# Altium schematic symbol library HW_ADHERENT_SYSCTRL_R1_L4.SchLib: 1634 symbols (part 29 of 31)
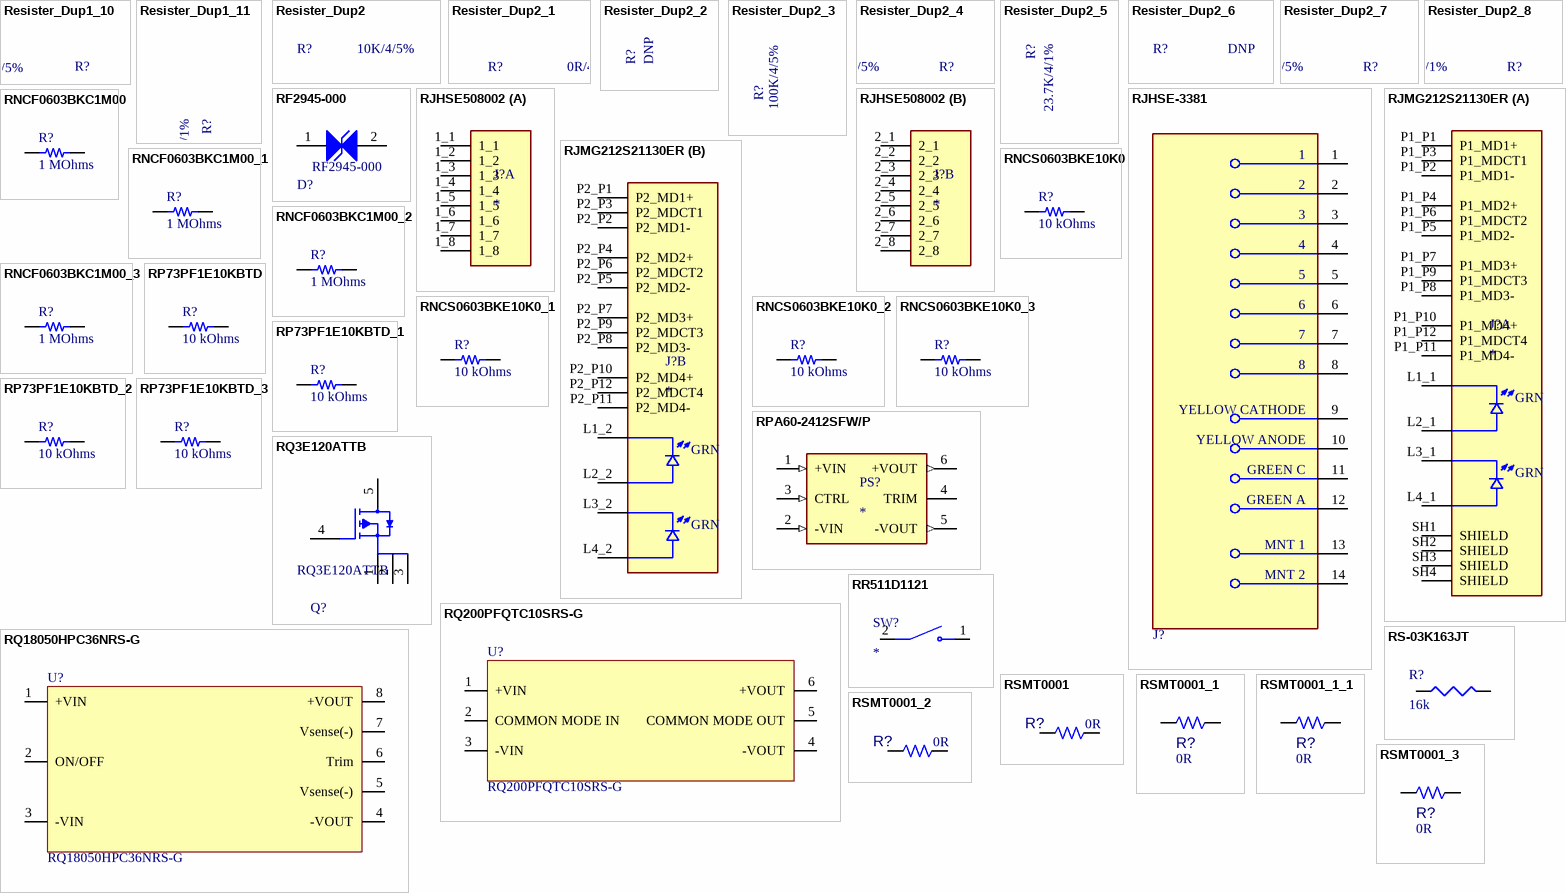
[diagram p78: symbols Resister_Dup1_10 to RSMT0001_3]

## Resister_Dup2_8
designator R?, comment 4.99k/4/1%
Thick Film Resistor,4.99K,+/-1%,,1/16W,-55¡ãC ~ 155¡ãC,,SMD,0402,Fenghua; Manufacturer P/N: RC-02W4991FT; PCB Footprint: R0402; Myir P/N: 20301.80442; Datasheet: FHsheet_2018-07-30.PDF; Reserve Value: 4.99K; Manufacturer: Fenghua; Part Type: Thick Film Resistor
footprint R0402

## RF2945-000
designator D?, comment value RF2945-000  (hidden comment: TVS DIODE 7VWM 10VC 0402)
10V (Typ) Clamp 2A (8/20µs) Ipp Tvs Diode Surface Mount 0402; Manufacturer Part Number: SESD0402X1BN-0010-098; Order Code: DIGI: SESD0402X1BN-0010-098TR-ND
footprint Littelfuse_SESD0402_MFG
pins: 1, 2

## RJHSE508002
designator J?
RJ45, RA, No Shield, 2 Port | Amphenol Commercial (Amphenol CS) RJHSE508002; MF: AMPHENOL ICC / FCI; SnapEDA_Link: https://www.snapeda.com/parts/RJHSE508002/Amphenol/view-part/?ref=snap; Package: None; Value: *; MP: RJHSE508002; Check_prices: https://www.snapeda.com/parts/RJHSE508002/Amphenol/view-part/?ref=eda
footprint AMPHENOL_RJHSE508002
part A pins: 1_1, 1_2, 1_3, 1_4, 1_5, 1_6, 1_7, 1_8
part B pins: 2_1, 2_2, 2_3, 2_4, 2_5, 2_6, 2_7, 2_8

## RJHSE-3381
designator J?  (value not drawn)
Jack Modular Connector 8p8c (RJ45, Ethernet) Vertical Shielded; Manufacturer: Amphenol ICC (Commercial Products); Manufacturer Part Number: RJHSE-3381
footprint Amphenol_0_MFG
pins: 1, 2, 3, 4, 5, 6, 7, 8, 9 YELLOW CATHODE, 10 YELLOW ANODE, 11 GREEN C, 12 GREEN A, 13 MNT 1, 14 MNT 2

## RJMG212S21130ER
designator J?
MF: Amphenol ICC (Commercial Products); MP: RJMG212S21130ER; Package: None; Price: None; Value: *; Availability: Unavailable
footprint AMPHENOL_RJMG212S21130ER
part A pins: L1_1, L2_1, L3_1, L4_1, P1_P1 P1_MD1+, P1_P2 P1_MD1-, P1_P3 P1_MDCT1, P1_P4 P1_MD2+, P1_P5 P1_MD2-, P1_P6 P1_MDCT2, P1_P7 P1_MD3+, P1_P8 P1_MD3-, P1_P9 P1_MDCT3, P1_P10 P1_MD4+, P1_P11 P1_MD4-, P1_P12 P1_MDCT4, SH1 SHIELD, SH2 SHIELD, SH3 SHIELD, SH4 SHIELD
part B pins: L1_2, L2_2, L3_2, L4_2, P2_P1 P2_MD1+, P2_P2 P2_MD1-, P2_P3 P2_MDCT1, P2_P4 P2_MD2+, P2_P5 P2_MD2-, P2_P6 P2_MDCT2, P2_P7 P2_MD3+, P2_P8 P2_MD3-, P2_P9 P2_MDCT3, P2_P10 P2_MD4+, P2_P11 P2_MD4-, P2_P12 P2_MDCT4
part A text: GRN
part B text: GRN

## RNCF0603BKC1M00
designator R?, comment 1 MOhms
RES SMD 1M OHM 0.1% 1/10W 0603; Part Number: RNCF0603BKC1M00; Manufacturer: Stackpole Electronics Inc; Power (Watts): 0.1W, 1/10W; Temperature Coefficient: ±50ppm/°C; Value: 1 MOhms; ComponentLink1Description: Datasheet; ComponentLink1URL: https://www.seielect.com/catalog/sei-rncf.pdf; ComponentLink2Description: DigiKey Link; ComponentLink2URL: https://www.digikey.com/en/products/detail/stackpole-electronics-inc/RNCF0603BKC1M00/6260857; Composition: Thin Film; Device Package: 0603 (1608 Metric); Features: Automotive AEC-Q200; Height - Seated (Max): 0.022" (0.55mm); LastUpdated: 2/9/2024 8:43:26 PM; Lifecycle Status: Active; Minimum Order: 1; Number of Terminations: 2; Operating Temperature: -55°C ~ 155°C; Package / Case: 0603 (1608 Metric); Packaging: TapeAndReel; PartId: 7445; Part Status: Active; Price: 0.05; Ratings: AEC-Q200; Resistance: 1 MOhms; Series: RNCF; Size / Dimension: 0.061" L x 0.031" W (1.55mm x 0.80mm); Supplier 1: DigiKey; Supplier Part Number 1: RNCF0603BKC1M00CT-ND; Supplier Device Package: 0603; Tolerance: ±0.1%
footprint RES 0603_1608
pins: 1, 2

## RNCF0603BKC1M00_1
designator R?, comment 1 MOhms
RES SMD 1M OHM 0.1% 1/10W 0603; Part Number: RNCF0603BKC1M00; Manufacturer: Stackpole Electronics Inc; Power (Watts): 0.1W, 1/10W; Temperature Coefficient: ±50ppm/°C; Value: 1 MOhms; ComponentLink1Description: Datasheet; ComponentLink1URL: https://www.seielect.com/catalog/sei-rncf.pdf; ComponentLink2Description: DigiKey Link; ComponentLink2URL: https://www.digikey.com/en/products/detail/stackpole-electronics-inc/RNCF0603BKC1M00/6260857; Composition: Thin Film; Device Package: 0603 (1608 Metric); Features: Automotive AEC-Q200; Height - Seated (Max): 0.022" (0.55mm); LastUpdated: 2/9/2024 8:43:26 PM; Lifecycle Status: Active; Minimum Order: 1; Number of Terminations: 2; Operating Temperature: -55°C ~ 155°C; Package / Case: 0603 (1608 Metric); Packaging: TapeAndReel; PartId: 7445; Part Status: Active; Price: 0.05; Ratings: AEC-Q200; Resistance: 1 MOhms; Series: RNCF; Size / Dimension: 0.061" L x 0.031" W (1.55mm x 0.80mm); Supplier 1: DigiKey; Supplier Part Number 1: RNCF0603BKC1M00CT-ND; Supplier Device Package: 0603; Tolerance: ±0.1%
footprint RES 0603_1608
pins: 1, 2

## RNCF0603BKC1M00_2
designator R?, comment 1 MOhms
RES SMD 1M OHM 0.1% 1/10W 0603; Part Number: RNCF0603BKC1M00; Manufacturer: Stackpole Electronics Inc; Power (Watts): 0.1W, 1/10W; Temperature Coefficient: ±50ppm/°C; Value: 1 MOhms; ComponentLink1Description: Datasheet; ComponentLink1URL: https://www.seielect.com/catalog/sei-rncf.pdf; ComponentLink2Description: DigiKey Link; ComponentLink2URL: https://www.digikey.com/en/products/detail/stackpole-electronics-inc/RNCF0603BKC1M00/6260857; Composition: Thin Film; Device Package: 0603 (1608 Metric); Features: Automotive AEC-Q200; Height - Seated (Max): 0.022" (0.55mm); LastUpdated: 2/9/2024 8:43:26 PM; Lifecycle Status: Active; Minimum Order: 1; Number of Terminations: 2; Operating Temperature: -55°C ~ 155°C; Package / Case: 0603 (1608 Metric); Packaging: TapeAndReel; PartId: 7445; Part Status: Active; Price: 0.05; Ratings: AEC-Q200; Resistance: 1 MOhms; Series: RNCF; Size / Dimension: 0.061" L x 0.031" W (1.55mm x 0.80mm); Supplier 1: DigiKey; Supplier Part Number 1: RNCF0603BKC1M00CT-ND; Supplier Device Package: 0603; Tolerance: ±0.1%
footprint RES 0603_1608
pins: 1, 2

## RNCF0603BKC1M00_3
designator R?, comment 1 MOhms
RES SMD 1M OHM 0.1% 1/10W 0603; Part Number: RNCF0603BKC1M00; Manufacturer: Stackpole Electronics Inc; Power (Watts): 0.1W, 1/10W; Temperature Coefficient: ±50ppm/°C; Value: 1 MOhms; ComponentLink1Description: Datasheet; ComponentLink1URL: https://www.seielect.com/catalog/sei-rncf.pdf; ComponentLink2Description: DigiKey Link; ComponentLink2URL: https://www.digikey.com/en/products/detail/stackpole-electronics-inc/RNCF0603BKC1M00/6260857; Composition: Thin Film; Device Package: 0603 (1608 Metric); Features: Automotive AEC-Q200; Height - Seated (Max): 0.022" (0.55mm); LastUpdated: 2/9/2024 8:43:26 PM; Lifecycle Status: Active; Minimum Order: 1; Number of Terminations: 2; Operating Temperature: -55°C ~ 155°C; Package / Case: 0603 (1608 Metric); Packaging: TapeAndReel; PartId: 7445; Part Status: Active; Price: 0.05; Ratings: AEC-Q200; Resistance: 1 MOhms; Series: RNCF; Size / Dimension: 0.061" L x 0.031" W (1.55mm x 0.80mm); Supplier 1: DigiKey; Supplier Part Number 1: RNCF0603BKC1M00CT-ND; Supplier Device Package: 0603; Tolerance: ±0.1%
footprint RES 0603_1608
pins: 1, 2

## RNCS0603BKE10K0
designator R?, comment 10 kOhms
RES 10K OHM 0.1% 1/16W 0603; Part Number: RNCS0603BKE10K0; Manufacturer: Stackpole Electronics Inc; Power (Watts): 0.063W, 1/16W; Temperature Coefficient: ±25ppm/°C; Value: 10 kOhms; ComponentLink1Description: Datasheet; ComponentLink1URL: https://www.seielect.com/catalog/sei-rncs_rnch.pdf; ComponentLink2Description: DigiKey Link; ComponentLink2URL: https://www.digikey.com/en/products/detail/stackpole-electronics-inc/RNCS0603BKE10K0/1708836; Composition: Thin Film; Device Package: 0603 (1608 Metric); Features: Anti-Corrosive, Automotive AEC-Q200, Moisture Resistant; Height - Seated (Max): 0.022" (0.55mm); LastUpdated: 2/9/2024 8:43:37 PM; Lifecycle Status: Active; Minimum Order: 1; Number of Terminations: 2; Operating Temperature: -55°C ~ 155°C; Package / Case: 0603 (1608 Metric); Packaging: TapeAndReel; PartId: 4838; Part Status: Active; Price: 0.06; Ratings: AEC-Q200; Resistance: 10 kOhms; Series: RNCS; Size / Dimension: 0.061" L x 0.031" W (1.55mm x 0.80mm); Supplier 1: DigiKey; Supplier Part Number 1: RNCS0603BKE10K0CT-ND; Supplier Device Package: 0603; Tolerance: ±0.1%
footprint RES 0603_1608
pins: 1, 2

## RNCS0603BKE10K0_1
designator R?, comment 10 kOhms
RES 10K OHM 0.1% 1/16W 0603; Part Number: RNCS0603BKE10K0; Manufacturer: Stackpole Electronics Inc; Power (Watts): 0.063W, 1/16W; Temperature Coefficient: ±25ppm/°C; Value: 10 kOhms; ComponentLink1Description: Datasheet; ComponentLink1URL: https://www.seielect.com/catalog/sei-rncs_rnch.pdf; ComponentLink2Description: DigiKey Link; ComponentLink2URL: https://www.digikey.com/en/products/detail/stackpole-electronics-inc/RNCS0603BKE10K0/1708836; Composition: Thin Film; Device Package: 0603 (1608 Metric); Features: Anti-Corrosive, Automotive AEC-Q200, Moisture Resistant; Height - Seated (Max): 0.022" (0.55mm); LastUpdated: 2/9/2024 8:43:37 PM; Lifecycle Status: Active; Minimum Order: 1; Number of Terminations: 2; Operating Temperature: -55°C ~ 155°C; Package / Case: 0603 (1608 Metric); Packaging: TapeAndReel; PartId: 4838; Part Status: Active; Price: 0.06; Ratings: AEC-Q200; Resistance: 10 kOhms; Series: RNCS; Size / Dimension: 0.061" L x 0.031" W (1.55mm x 0.80mm); Supplier 1: DigiKey; Supplier Part Number 1: RNCS0603BKE10K0CT-ND; Supplier Device Package: 0603; Tolerance: ±0.1%
footprint RES 0603_1608
pins: 1, 2

## RNCS0603BKE10K0_2
designator R?, comment 10 kOhms
RES 10K OHM 0.1% 1/16W 0603; Part Number: RNCS0603BKE10K0; Manufacturer: Stackpole Electronics Inc; Power (Watts): 0.063W, 1/16W; Temperature Coefficient: ±25ppm/°C; Value: 10 kOhms; ComponentLink1Description: Datasheet; ComponentLink1URL: https://www.seielect.com/catalog/sei-rncs_rnch.pdf; ComponentLink2Description: DigiKey Link; ComponentLink2URL: https://www.digikey.com/en/products/detail/stackpole-electronics-inc/RNCS0603BKE10K0/1708836; Composition: Thin Film; Device Package: 0603 (1608 Metric); Features: Anti-Corrosive, Automotive AEC-Q200, Moisture Resistant; Height - Seated (Max): 0.022" (0.55mm); LastUpdated: 2/9/2024 8:43:37 PM; Lifecycle Status: Active; Minimum Order: 1; Number of Terminations: 2; Operating Temperature: -55°C ~ 155°C; Package / Case: 0603 (1608 Metric); Packaging: TapeAndReel; PartId: 4838; Part Status: Active; Price: 0.06; Ratings: AEC-Q200; Resistance: 10 kOhms; Series: RNCS; Size / Dimension: 0.061" L x 0.031" W (1.55mm x 0.80mm); Supplier 1: DigiKey; Supplier Part Number 1: RNCS0603BKE10K0CT-ND; Supplier Device Package: 0603; Tolerance: ±0.1%
footprint RES 0603_1608
pins: 1, 2

## RNCS0603BKE10K0_3
designator R?, comment 10 kOhms
RES 10K OHM 0.1% 1/16W 0603; Part Number: RNCS0603BKE10K0; Manufacturer: Stackpole Electronics Inc; Power (Watts): 0.063W, 1/16W; Temperature Coefficient: ±25ppm/°C; Value: 10 kOhms; ComponentLink1Description: Datasheet; ComponentLink1URL: https://www.seielect.com/catalog/sei-rncs_rnch.pdf; ComponentLink2Description: DigiKey Link; ComponentLink2URL: https://www.digikey.com/en/products/detail/stackpole-electronics-inc/RNCS0603BKE10K0/1708836; Composition: Thin Film; Device Package: 0603 (1608 Metric); Features: Anti-Corrosive, Automotive AEC-Q200, Moisture Resistant; Height - Seated (Max): 0.022" (0.55mm); LastUpdated: 2/9/2024 8:43:37 PM; Lifecycle Status: Active; Minimum Order: 1; Number of Terminations: 2; Operating Temperature: -55°C ~ 155°C; Package / Case: 0603 (1608 Metric); Packaging: TapeAndReel; PartId: 4838; Part Status: Active; Price: 0.06; Ratings: AEC-Q200; Resistance: 10 kOhms; Series: RNCS; Size / Dimension: 0.061" L x 0.031" W (1.55mm x 0.80mm); Supplier 1: DigiKey; Supplier Part Number 1: RNCS0603BKE10K0CT-ND; Supplier Device Package: 0603; Tolerance: ±0.1%
footprint RES 0603_1608
pins: 1, 2

## RP73PF1E10KBTD
designator R?, comment 10 kOhms
RES 10K OHM 0.1% 1/10W 0402; Part Number: RP73PF1E10KBTD; Manufacturer: TE Connectivity Passive Product; Power (Watts): 0.1W, 1/10W; Temperature Coefficient: ±25ppm/°C; ComponentLink1Description: Datasheet; ComponentLink1URL: https://www.te.com/commerce/DocumentDelivery/DDEController?Action=srchrtrv&DocNm=1773272&DocType=DS&DocLang=English; ComponentLink2Description: DigiKey Link; ComponentLink2URL: https://www.digikey.com/en/products/detail/te-connectivity-passive-product/RP73PF1E10KBTD/8260957; Composition: Thin Film; Device Package: 0402 (1005 Metric); Height - Seated (Max): 0.014" (0.35mm); LastUpdated: 2/9/2024 8:30:24 PM; Lifecycle Status: Active; Minimum Order: 1; Number of Terminations: 2; Operating Temperature: -55°C ~ 155°C; Package / Case: 0402 (1005 Metric); Packaging: TapeAndReel; PartId: 2434; Part Status: Active; Price: 0.08; Resistance: 10 kOhms; Series: RP73, Holsworthy; Size / Dimension: 0.039" L x 0.020" W (1.00mm x 0.50mm); Supplier 1: DigiKey; Supplier Part Number 1: A127415CT-ND; Supplier Device Package: 0402; Tolerance: ±0.1%; Value: 10 kOhms
footprint RES 0402_1005
pins: 1, 2

## RP73PF1E10KBTD_1
designator R?, comment 10 kOhms
RES 10K OHM 0.1% 1/10W 0402; Part Number: RP73PF1E10KBTD; Manufacturer: TE Connectivity Passive Product; Power (Watts): 0.1W, 1/10W; Temperature Coefficient: ±25ppm/°C; Value: 10 kOhms; ComponentLink1Description: Datasheet; ComponentLink1URL: https://www.te.com/commerce/DocumentDelivery/DDEController?Action=srchrtrv&DocNm=1773272&DocType=DS&DocLang=English; ComponentLink2Description: DigiKey Link; ComponentLink2URL: https://www.digikey.com/en/products/detail/te-connectivity-passive-product/RP73PF1E10KBTD/8260957; Composition: Thin Film; Device Package: 0402 (1005 Metric); Height - Seated (Max): 0.014" (0.35mm); LastUpdated: 2/9/2024 8:30:24 PM; Lifecycle Status: Active; Minimum Order: 1; Number of Terminations: 2; Operating Temperature: -55°C ~ 155°C; Package / Case: 0402 (1005 Metric); Packaging: TapeAndReel; PartId: 2434; Part Status: Active; Price: 0.08; Resistance: 10 kOhms; Series: RP73, Holsworthy; Size / Dimension: 0.039" L x 0.020" W (1.00mm x 0.50mm); Supplier 1: DigiKey; Supplier Part Number 1: A127415CT-ND; Supplier Device Package: 0402; Tolerance: ±0.1%
footprint RES 0402_1005
pins: 1, 2

## RP73PF1E10KBTD_2
designator R?, comment 10 kOhms
RES 10K OHM 0.1% 1/10W 0402; Part Number: RP73PF1E10KBTD; Manufacturer: TE Connectivity Passive Product; Power (Watts): 0.1W, 1/10W; Temperature Coefficient: ±25ppm/°C; ComponentLink1Description: Datasheet; ComponentLink1URL: https://www.te.com/commerce/DocumentDelivery/DDEController?Action=srchrtrv&DocNm=1773272&DocType=DS&DocLang=English; ComponentLink2Description: DigiKey Link; ComponentLink2URL: https://www.digikey.com/en/products/detail/te-connectivity-passive-product/RP73PF1E10KBTD/8260957; Composition: Thin Film; Device Package: 0402 (1005 Metric); Height - Seated (Max): 0.014" (0.35mm); LastUpdated: 2/9/2024 8:30:24 PM; Lifecycle Status: Active; Minimum Order: 1; Number of Terminations: 2; Operating Temperature: -55°C ~ 155°C; Package / Case: 0402 (1005 Metric); Packaging: TapeAndReel; PartId: 2434; Part Status: Active; Price: 0.08; Resistance: 10 kOhms; Series: RP73, Holsworthy; Size / Dimension: 0.039" L x 0.020" W (1.00mm x 0.50mm); Supplier 1: DigiKey; Supplier Part Number 1: A127415CT-ND; Supplier Device Package: 0402; Tolerance: ±0.1%; Value: 10 kOhms
footprint RES 0402_1005
pins: 1, 2

## RP73PF1E10KBTD_3
designator R?, comment 10 kOhms
RES 10K OHM 0.1% 1/10W 0402; Part Number: RP73PF1E10KBTD; Manufacturer: TE Connectivity Passive Product; Power (Watts): 0.1W, 1/10W; Temperature Coefficient: ±25ppm/°C; ComponentLink1Description: Datasheet; ComponentLink1URL: https://www.te.com/commerce/DocumentDelivery/DDEController?Action=srchrtrv&DocNm=1773272&DocType=DS&DocLang=English; ComponentLink2Description: DigiKey Link; ComponentLink2URL: https://www.digikey.com/en/products/detail/te-connectivity-passive-product/RP73PF1E10KBTD/8260957; Composition: Thin Film; Device Package: 0402 (1005 Metric); Height - Seated (Max): 0.014" (0.35mm); LastUpdated: 2/9/2024 8:30:24 PM; Lifecycle Status: Active; Minimum Order: 1; Number of Terminations: 2; Operating Temperature: -55°C ~ 155°C; Package / Case: 0402 (1005 Metric); Packaging: TapeAndReel; PartId: 2434; Part Status: Active; Price: 0.08; Resistance: 10 kOhms; Series: RP73, Holsworthy; Size / Dimension: 0.039" L x 0.020" W (1.00mm x 0.50mm); Supplier 1: DigiKey; Supplier Part Number 1: A127415CT-ND; Supplier Device Package: 0402; Tolerance: ±0.1%; Value: 10 kOhms
footprint RES 0402_1005
pins: 1, 2

## RPA60-2412SFW/P
designator PS?
60W DC/DC-Converter 'POWERLINE' 2 x1 1.5kV reg 4: ; V. In: 9-36; V. Out: 12; mA. Out: 5000; Manufacturer: Recom; Manufacturer Part Number: RPA60-2412SFW/P; Supplier 1: Digikey; RoHS: Yes; Category: Board Mount Modules; Stock 1: 3612; Pricing 1: 1=68.75, 5=66.14, 10=65.618, 25=63.5352, 50=60.4106, 100=56.2444 (USD); ComponentLink1URL: https://datasheet.octopart.com/RPA60-2412SFW-P-Recom-Power-datasheet-67314772.pdf?src-supplier=Newark; ComponentLink1Description: https://datasheet.octopart.com/RPA60-2412SFW-P-Recom-Power-datasheet-67314772.pdf?src-supplier=Newark; ComponentLink2URL: https://www.recom-power.com/pdf/Powerline-DC-DC/RPA60-FW.pdf?src-supplier=Digikey; ComponentLink2Description: https://www.recom-power.com/pdf/Powerline-DC-DC/RPA60-FW.pdf?src-supplier=Digikey; ComponentLink3URL: https://datasheet.octopart.com/RPA60-2412SFW-P-Recom-Power-datasheet-68305293.pdf?src-supplier=Sager+Electronics; ComponentLink3Description: https://datasheet.octopart.com/RPA60-2412SFW-P-Recom-Power-datasheet-68305293.pdf?src-supplier=Sager+Electronics; Supplier Part Number 1: 945-2958-ND
footprint CONV_RPA60-2412SFW/P
pins: 1 +VIN (in), 2 -VIN (in), 3 CTRL (in), 4 TRIM, 5 -VOUT (out), 6 +VOUT (out)

## RQ3E120ATTB
designator Q?, comment Manufacturer Part Number: RQ3E120ATTB  (hidden comment: MOSFET P-CH 30V 12A 8HSMT)
P-Channel 30 V 12A (Ta) 2W (Ta) Surface Mount 8-HSMT (3.2x3); Order Code: DIGI: RQ3E120ATTBTR-ND
footprint 8-HSMT-(3.2x3)
pins: 1 S, 2 S, 3 S, 4 G, 5 D

## RQ200PFQTC10SRS-G
designator U?
-200V to +200V 10A EMI FILTER; Manufacturer: Synqor; Max DC Resistance: 70mΩ @ 100ºC; Differential Attenuation: >80dB @ 250kHz; Common attenuation: >50dB @ 250kHz; Manufacturer Part Number: RQ200PFQTC10SRS-G; Max Output Current: 10A; Max Input Voltage: +200V
footprint SYNQOR_EMI_FILTER
pins: 1 +VIN, 2 COMMON MODE IN, 3 -VIN, 4 -VOUT, 5 COMMON MODE OUT, 6 +VOUT

## RQ18050HPC36NRS-G
designator U?
9-36V 180W Rail Grade DC-DC Power Supply; Manufacturer: Synqor; Differential Attenuation: >80dB @ 250kHz; Common attenuation: >50dB @ 250kHz; Manufacturer Part Number: RQ18050HPC36NRS-G; Parameter 1: *
footprint SYNQOR_DC-DC_CONVERTER
pins: 1 +VIN, 2 ON/OFF, 3 -VIN, 4 -VOUT, 5 Vsense(-), 6 Trim, 7 Vsense(-), 8 +VOUT

## RR511D1121
designator SW?
Rocker Switch SPST 20A (AC) 125 V Panel Mount, Snap-In
footprint E-SWITCH_RR511D1121
pins: 1 NO, 2 COM

## RS-03K163JT
designator R?, comment 16k
-55℃~+155℃ 100mW 16kΩ 50V Thick Film Resistor ±100ppm/℃ ±5% 0603 Chip Resistor - Surface Mount ROHS
footprint RES0603
pins: 1, 2

## RSMT0001
designator R?, comment 0R
RES 0 OHM JUMPER 1/16W 0402; Manufacturer: Yageo; Manufacturer Part Number: RC0402FR-070RL; Value: 0R; Revision: 2; Supplier Part Number: 311-0.0LRCT-ND
footprint 0402_R (MODIFIED BY DN_MH - 16JAN17;CHECKED BY DN_TN - 18JAN17;CHECKED BY DN_QN - 20FEB19)
pins: 1, 2

## RSMT0001_1
designator R?, comment 0R
RES 0 OHM JUMPER 1/16W 0402; Manufacturer: Yageo; Manufacturer Part Number: RC0402FR-070RL; Value: 0R; Revision: 2; Supplier Part Number: 311-0.0LRCT-ND
footprint 0402_R (MODIFIED BY DN_MH - 16JAN17;CHECKED BY DN_TN - 18JAN17;CHECKED BY DN_QN - 20FEB19)
pins: 1, 2

## RSMT0001_1_1
designator R?, comment 0R
RES 0 OHM JUMPER 1/16W 0402; Manufacturer: Yageo; Manufacturer Part Number: RC0402FR-070RL; Value: 0R; Revision: 2; Supplier Part Number: 311-0.0LRCT-ND
footprint 0402_R (MODIFIED BY DN_MH - 16JAN17;CHECKED BY DN_TN - 18JAN17;CHECKED BY DN_QN - 20FEB19)
pins: 1, 2

## RSMT0001_2
designator R?, comment 0R
RES 0 OHM JUMPER 1/16W 0402; Manufacturer: Yageo; Manufacturer Part Number: RC0402FR-070RL; Value: 0R; Revision: 2; Supplier Part Number: 311-0.0LRCT-ND
footprint 0402_R (MODIFIED BY DN_MH - 16JAN17;CHECKED BY DN_TN - 18JAN17;CHECKED BY DN_QN - 20FEB19)
pins: 1, 2

## RSMT0001_3
designator R?, comment 0R
RES 0 OHM JUMPER 1/16W 0402; Manufacturer: Yageo; Manufacturer Part Number: RC0402FR-070RL; Value: 0R; Revision: 2; Supplier Part Number: 311-0.0LRCT-ND
footprint 0402_R (MODIFIED BY DN_MH - 16JAN17;CHECKED BY DN_TN - 18JAN17;CHECKED BY DN_QN - 20FEB19)
pins: 1, 2

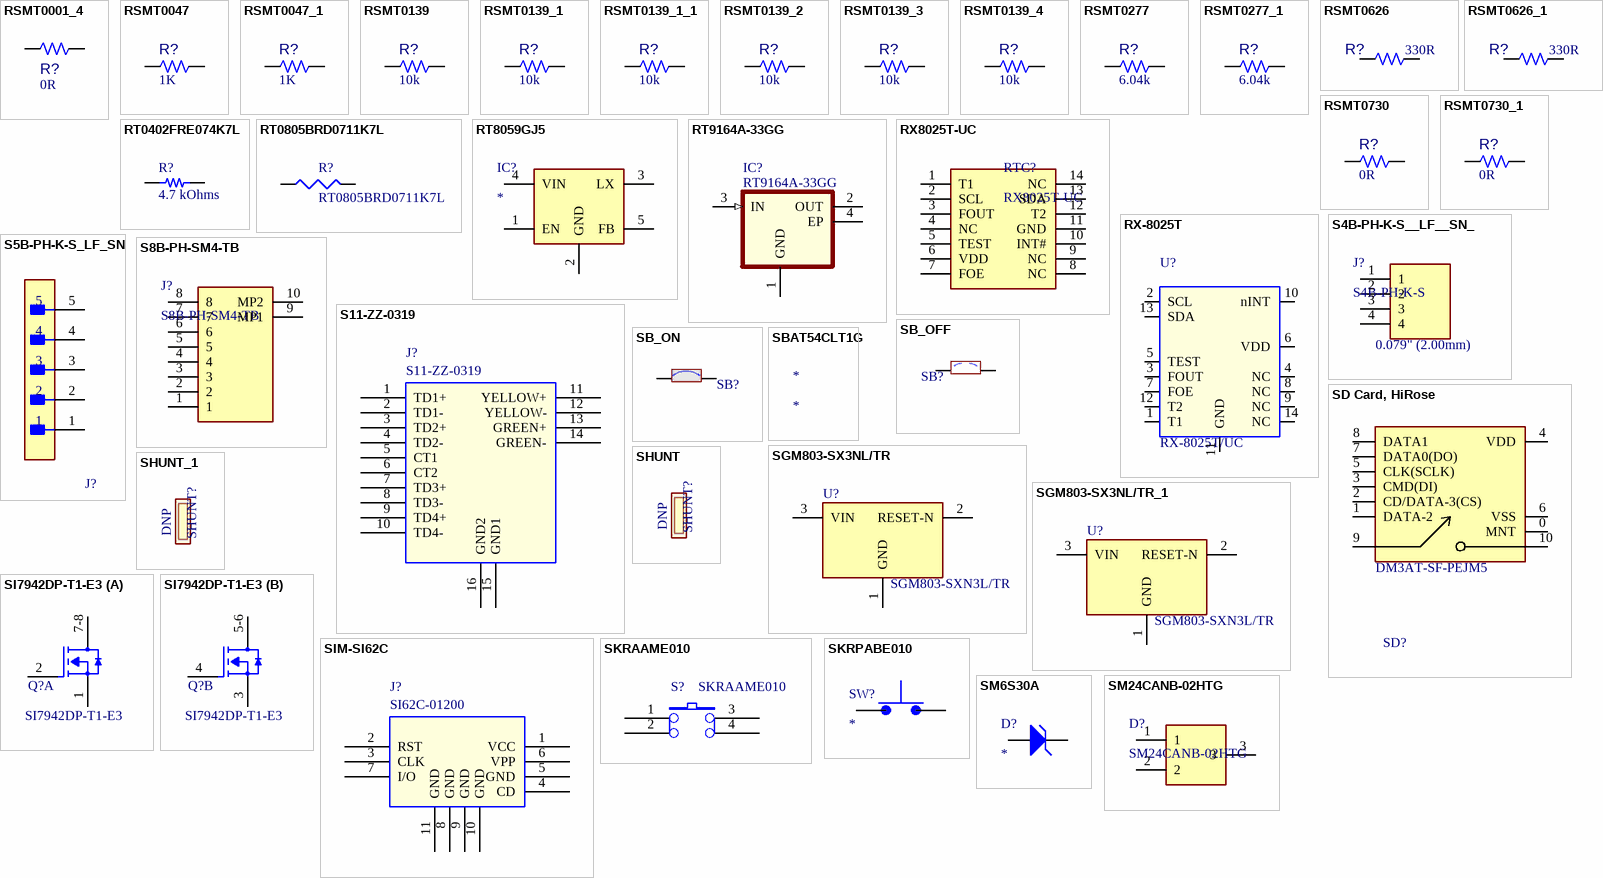
[diagram p41: symbols RSMT0001_4 to SM24CANB-02HTG]

## RSMT0001_4
designator R?, comment 0R
RES 0 OHM JUMPER 1/16W 0402; Manufacturer: Yageo; Manufacturer Part Number: RC0402FR-070RL; Value: 0R; Revision: 2; Supplier Part Number: 311-0.0LRCT-ND
footprint 0402_R (MODIFIED BY DN_MH - 16JAN17;CHECKED BY DN_TN - 18JAN17;CHECKED BY DN_QN - 20FEB19)
pins: 1, 2

## RSMT0047
designator R?, comment 1K
RES 1K OHM 1% 1/16W 0402; Manufacturer Part Number: RC0402FR-071KL; Manufacturer: Yageo; Value: 1K; Revision: 1; Supplier Part Number: 311-1.00KLRCT-ND
footprint 0402_R (MODIFIED BY DN_MH - 16JAN17;CHECKED BY DN_TN - 18JAN17;CHECKED BY DN_QN - 20FEB19)
pins: 1, 2

## RSMT0047_1
designator R?, comment 1K
RES 1K OHM 1% 1/16W 0402; Manufacturer Part Number: RC0402FR-071KL; Manufacturer: Yageo; Value: 1K; Revision: 1; Supplier Part Number: 311-1.00KLRCT-ND
footprint 0402_R (MODIFIED BY DN_MH - 16JAN17;CHECKED BY DN_TN - 18JAN17;CHECKED BY DN_QN - 20FEB19)
pins: 1, 2

## RSMT0139
designator R?, comment 10k
RES 10K OHM 1% 1/16W 0402; Manufacturer: Yageo; Manufacturer Part Number: RC0402FR-0710KL; Value: 10k; Revision: 2; Supplier Part Number: 311-10.0KLRCT-ND
footprint 0402_R (MODIFIED BY DN_MH - 16JAN17;CHECKED BY DN_TN - 18JAN17;CHECKED BY DN_QN - 20FEB19)
pins: 1, 2

## RSMT0139_1
designator R?, comment 10k
RES 10K OHM 1% 1/16W 0402; Manufacturer: Yageo; Manufacturer Part Number: RC0402FR-0710KL; Value: 10k; Revision: 2; Supplier Part Number: 311-10.0KLRCT-ND
footprint 0402_R (MODIFIED BY DN_MH - 16JAN17;CHECKED BY DN_TN - 18JAN17;CHECKED BY DN_QN - 20FEB19)
pins: 1, 2

## RSMT0139_1_1
designator R?, comment 10k
RES 10K OHM 1% 1/16W 0402; Manufacturer: Yageo; Manufacturer Part Number: RC0402FR-0710KL; Value: 10k; Revision: 2; Supplier Part Number: 311-10.0KLRCT-ND
footprint 0402_R (MODIFIED BY DN_MH - 16JAN17;CHECKED BY DN_TN - 18JAN17;CHECKED BY DN_QN - 20FEB19)
pins: 1, 2

## RSMT0139_2
designator R?, comment 10k
RES 10K OHM 1% 1/16W 0402; Manufacturer: Yageo; Manufacturer Part Number: RC0402FR-0710KL; Value: 10k; Revision: 2; Supplier Part Number: 311-10.0KLRCT-ND
footprint 0402_R (MODIFIED BY DN_MH - 16JAN17;CHECKED BY DN_TN - 18JAN17;CHECKED BY DN_QN - 20FEB19)
pins: 1, 2

## RSMT0139_3
designator R?, comment 10k
RES 10K OHM 1% 1/16W 0402; Manufacturer: Yageo; Manufacturer Part Number: RC0402FR-0710KL; Value: 10k; Revision: 2; Supplier Part Number: 311-10.0KLRCT-ND
footprint 0402_R (MODIFIED BY DN_MH - 16JAN17;CHECKED BY DN_TN - 18JAN17;CHECKED BY DN_QN - 20FEB19)
pins: 1, 2

## RSMT0139_4
designator R?, comment 10k
RES 10K OHM 1% 1/16W 0402; Manufacturer: Yageo; Manufacturer Part Number: RC0402FR-0710KL; Value: 10k; Revision: 2; Supplier Part Number: 311-10.0KLRCT-ND
footprint 0402_R (MODIFIED BY DN_MH - 16JAN17;CHECKED BY DN_TN - 18JAN17;CHECKED BY DN_QN - 20FEB19)
pins: 1, 2

## RSMT0277
designator R?, comment 6.04k
RES 6.04K OHM 1% 1/16W 0402; Manufacturer: Yageo; Manufacturer Part Number: RC0402FR-076K04L; Voltage: 50V; Value: 6.04k; Revision: 1; Supplier Part Number: YAG2293CT-ND
footprint 0402_R (MODIFIED BY DN_MH - 16JAN17;CHECKED BY DN_TN - 18JAN17;CHECKED BY DN_QN - 20FEB19)
pins: 1, 2

## RSMT0277_1
designator R?, comment 6.04k
RES 6.04K OHM 1% 1/16W 0402; Manufacturer: Yageo; Manufacturer Part Number: RC0402FR-076K04L; Voltage: 50V; Value: 6.04k; Revision: 1; Supplier Part Number: YAG2293CT-ND
footprint 0402_R (MODIFIED BY DN_MH - 16JAN17;CHECKED BY DN_TN - 18JAN17;CHECKED BY DN_QN - 20FEB19)
pins: 1, 2

## RSMT0626
designator R?, comment 330R
RES 330 OHM 1% 1/16W 0402; Manufacturer: YAGEO; Manufacturer Part Number: RC0402FR-07330RL; Voltage: 75V; Value: 330R; Revision: 2; Supplier Part Number: 311-330LRCT-ND
footprint 0402_R (MODIFIED BY DN_MH - 16JAN17;CHECKED BY DN_TN - 18JAN17;CHECKED BY DN_QN - 20FEB19)
pins: 1, 2

## RSMT0626_1
designator R?, comment 330R
RES 330 OHM 1% 1/16W 0402; Manufacturer: YAGEO; Manufacturer Part Number: RC0402FR-07330RL; Voltage: 75V; Value: 330R; Revision: 2; Supplier Part Number: 311-330LRCT-ND
footprint 0402_R (MODIFIED BY DN_MH - 16JAN17;CHECKED BY DN_TN - 18JAN17;CHECKED BY DN_QN - 20FEB19)
pins: 1, 2

## RSMT0730
designator R?, comment 0R
RES 0 OHM JUMPER 1/16W 0402; Manufacturer: Yageo; Manufacturer Part Number: RC0402FR-070RL; Value: 0R; Revision: 2; Supplier Part Number: 311-0.0LRCT-ND
footprint 0402_R (MODIFIED BY DN_MH - 16JAN17;CHECKED BY DN_TN - 18JAN17;CHECKED BY DN_QN - 20FEB19)
pins: 1, 2

## RSMT0730_1
designator R?, comment 0R
RES 0 OHM JUMPER 1/16W 0402; Manufacturer: Yageo; Manufacturer Part Number: RC0402FR-070RL; Value: 0R; Revision: 2; Supplier Part Number: 311-0.0LRCT-ND
footprint 0402_R (MODIFIED BY DN_MH - 16JAN17;CHECKED BY DN_TN - 18JAN17;CHECKED BY DN_QN - 20FEB19)
pins: 1, 2

## RT0402FRE074K7L
designator R?, comment 4.7 kOhms
RES SMD 4.7K OHM 1% 1/16W 0402; Part Number: RT0402FRE074K7L; Manufacturer: Yageo; Power (Watts): 0.063W, 1/16W; Temperature Coefficient: ±50ppm/°C; Value: 4.7 kOhms; ComponentLink1Description: Datasheet; ComponentLink1URL: https://www.yageo.com/upload/media/product/productsearch/datasheet/rchip/PYu-RT_1-to-0.01_RoHS_L_11.pdf; ComponentLink2Description: DigiKey Link; ComponentLink2URL: https://www.digikey.com/en/products/detail/yageo/RT0402FRE074K7L/1072052; Composition: Thin Film; Device Package: 0402 (1005 Metric); Height - Seated (Max): 0.014" (0.35mm); LastUpdated: 7/25/2024 9:18:18 AM; Lifecycle Status: Active; Minimum Order: 1; Number of Terminations: 2; Operating Temperature: -55°C ~ 155°C; Package / Case: 0402 (1005 Metric); Packaging: TapeAndReel; PartId: 3198; Part Status: Active; Price: 0.01; Resistance: 4.7 kOhms; Series: RT; Size / Dimension: 0.039" L x 0.020" W (1.00mm x 0.50mm); Supplier 1: DigiKey; Supplier Part Number 1: YAG3347CT-ND; Supplier Device Package: 0402; Tolerance: ±1%
footprint YAGEO RES 0402_1005
pins: 1, 2

## RT0805BRD0711K7L
designator R?
High Precision-High Stability Chip Resistor Thin Film 0805 11.7kOhm 0.1% Paper T/R; Manufacturer: Yageo; Supplier 1: Digikey; Manufacturer Part Number: RT0805BRD0711K7L; RoHS: Yes; Category: Chip SMD Resistors; Stock 1: 5000; Pricing 1: 5000=0.04185, 10000=0.03889 (USD); ComponentLink1URL: http://www.yageo.com/documents/recent/PYu-RT_1-to-0.01_RoHS_L_9.pdf?src-supplier=Digikey; ComponentLink1Description: http://www.yageo.com/documents/recent/PYu-RT_1-to-0.01_RoHS_L_9.pdf?src-supplier=Digikey; ComponentLink2URL: https://datasheet.octopart.com/RT0805BRD0711K7L-Yageo-datasheet-166250672.pdf?src-supplier=Future+Electronics; ComponentLink2Description: https://datasheet.octopart.com/RT0805BRD0711K7L-Yageo-datasheet-166250672.pdf?src-supplier=Future+Electronics; Supplier Part Number 1: 13-RT0805BRD0711K7LTR-ND
footprint RESC2012X60N
pins: 1, 2

## RT8059GJ5
designator IC?
Integrated Circuit; Manufacturer_Name: RICHTEK; Manufacturer_Part_Number: RT8059GJ5; Datasheet Link: http://www.farnell.com/datasheets/1756324.pdf; Height: 1mm
footprint SOT94P280X100-5N
pins: 1 EN, 2 GND, 3 LX, 4 VIN, 5 FB

## RT9164A-33GG
designator IC?
IC REG LINEAR 3.3V 1A SOT223; Manufacturer: Richtek; Dropout Voltage: 1.3V; Min Input Voltage: 3V; Max Input Voltage: 14V; Number of Regulators: 1; Supplier 1: Digi-Key; Supplier Part Number 1: 1028-1063-1-ND; Manufacturer Part Number: RT9164A-33GG; RoHS: Yes; Category: Voltage Regulators - Linear; Stock 1: 856; Pricing 1: 1=0,97000, 10=0,85400, 25=0,80160, 100=0,65440, 250=0,60780, 500=0,51728, 1000=0,41382 (USD); Mount: Surface Mount; Case/Package: SOT-223; Number of Pins: 3; Min Operating Temperature: -40°C; Max Operating Temperature: 125°C; Packaging: Cut Tape; Nominal Output Voltage: 3.3V; Output Current: 1A; Output Voltage: 3.3V; Min Current Limit: 1A; Series: -; REACH SVHC: Unknown; Lead Free: Lead Free; RoHS Compliant: Yes; ComponentLink1URL: https://datasheet.ciiva.com/22749/1720531-22749488.pdf?src-supplier=Element14; ComponentLink1Description: https://datasheet.ciiva.com/22749/1720531-22749488.pdf?src-supplier=Element14; ComponentLink2URL: https://datasheet.ciiva.com/2053/3d3futf-83fb3frfm5mty0qs0xns5wzgy3d3f3d-2053536.pdf?src-supplier=Digi-Key; ComponentLink2Description: https://datasheet.ciiva.com/2053/3d3futf-83fb3frfm5mty0qs0xns5wzgy3d3f3d-2053536.pdf?src-supplier=Digi-Key
footprint SOT223-4N (SOT223, 4-Leads, Body 6.5x3.5mm, Pitch 2.3mm, Lead Span 7mm, IPC Medium Density)
pins: 1 GND (power), 2 OUT (power), 3 IN (in), 4 EP (power)

## RX8025T-UC
designator RTC?
Manufacturer: Seiko; Supplier 1: LCSC; Manufacturer Part Number: RX8025T-UC; RoHS: No; Stock 1: 26023; Pricing 1: 1=1.2107, 10=1.0246, 30=0.9212, 100=0.8066, 500=0.708, 1000=0.6841 (USD); Supplier Part Number 1: C53691
footprint SOP14
pins: 1 T1, 2 SCL, 3 FOUT, 4 NC, 5 TEST, 6 VDD, 7 FOE, 8 NC, 9 NC, 10 INT#, 11 GND, 12 T2, 13 SDA, 14 NC

## RX-8025T
designator U?, comment RX-8025T/UC
IC,I2C-Bus Interface RTC Module,SMD,SOP14,Epson; RP1 Manufacturer P/N: XCRSE8025TIAD; Myir P/N: 20108.00003; RP1 Myir P/N: 20108.80003; PCB Footprint: SOP14; Datasheet: RX-8025T.pdf; Reserve Value: RX-8025T/UC; Manufacturer P/N: RX-8025T/UC; Manufacturer: Epson; Part Type: Clock
footprint SOP14
pins: 1 T1, 2 SCL, 3 FOUT, 4 NC (power), 5 TEST, 6 VDD, 7 FOE (power), 8 NC (power), 9 NC (power), 10 nINT, 11 GND, 12 T2, 13 SDA, 14 NC (power)

## S4B-PH-K-S__LF__SN_
designator J?, comment S4B-PH-K-S
Connector Header Through Hole, Right Angle 4 position 0.079" (2.00mm); Manufacturer_Name: JST (JAPAN SOLDERLESS TERMINALS); Manufacturer_Part_Number: S4B-PH-K-S (LF)(SN); Datasheet Link: https://g.componentsearchengine.com/ga/sdfsds; Height: 4.8mm
footprint S4BPHKSLFSN
pins: 1, 2, 3, 4
text: 0.079" (2.00mm)

## S5B-PH-K-S_LF_SN
designator J?  (value not drawn)
footprint JST_Sales_America_Inc_0_0
pins: 1, 2, 3, 4, 5

## S8B-PH-SM4-TB
designator J?
Connector Header Surface Mount, Right Angle 8 position 0.079" (2.00mm); Manufacturer_Name: JST (JAPAN SOLDERLESS TERMINALS); Manufacturer_Part_Number: S8B-PH-SM4-TB (LF)(SN); Datasheet Link: 3u$rOmiT1f99+#3PaHiT; Height: 5.5mm
footprint S8BPHSM4TBLFSN
pins: 1, 2, 3, 4, 5, 6, 7, 8, 9 MP1, 10 MP2

## S11-ZZ-0319
designator J?
Connector,RJ45 1X1,10/100/1000 Base-T,LED:L-Green; R-Yellow,Gold Flash,-40 ¡ãC~+85¡ãC,UDE; Myir P/N: 21118.00010; Part Type: ETH Connector; Manufacturer: UDE; Manufacturer P/N: S11-ZZ-0319; Reserve Value: S11-ZZ-0319; Datasheet: RJ45-UDE_S11-ZZ-0319(20130-00)-A.pdf; PCB Footprint: S11-ZZ-0319
footprint S11-ZZ-0319
pins: 1 TD1+, 2 TD1-, 3 TD2+, 4 TD2-, 5 CT1, 6 CT2, 7 TD3+, 8 TD3-, 9 TD4+, 10 TD4-, 11 YELLOW+, 12 YELLOW-, 13 GREEN+, 14 GREEN-, 15 GND1, 16 GND2

## SB_OFF
designator SB?  (value not drawn)  (no BOM)
Solder Bridge OFF; Internal_Part_Number: MCD-00072; Part_Type: Mechanical; Initial_Board_Reference: mb1274; Status: Released; ECCN_US: n/a; ECCN_EU: n/a; Provided_By: n/a
footprint SOLDER-BRIDGE_OFF_R0603-0R
pins: 1, 2

## SB_ON
designator SB?  (value not drawn)
Solder Bridge ON; Manufacturer Part Number: CRCW06030000Z0EA; Order Code: DIGI: 541-0.0GTR-ND
footprint SOLDER-BRIDGE_ON_R0603-0R
pins: 1, 2

## SBAT54CLT1G
designator *
Rectifier Diode Schottky 0.2A 5ns Automotive 3-Pin SOT-23 T/R; Manufacturer: ON Semiconductor; Manufacturer Part Number: SBAT54CLT1G; Supplier 1: Digikey; RoHS: Yes; Category: Schottky Diodes; Stock 1: 69000; Pricing 1: 3000=0.06138, 6000=0.05694, 9000=0.04722, 30000=0.04638, 75000=0.04166, 150000=0.03611 (USD); ComponentLink1URL: https://datasheet.ciiva.com/8292/bat54clt1-d-8292853.pdf?src-supplier=Avnet; ComponentLink1Description: https://datasheet.ciiva.com/8292/bat54clt1-d-8292853.pdf?src-supplier=Avnet; ComponentLink2URL: https://datasheet.ciiva.com/908/bat54clt1-d-908339.pdf?src-supplier=Digikey; ComponentLink2Description: https://datasheet.ciiva.com/908/bat54clt1-d-908339.pdf?src-supplier=Digikey; Supplier Part Number 1: SBAT54CLT1GOSTR-ND

## SD Card, HiRose
designator SD?  Manufacturer Part Number: DM3AT-SF-PEJM5  (hidden comment: SD Card, HiRose)
Memory Card Connectors R/A SMT MICROSD CON PUSH-PUSH TOP BRDMNT; Order Code: Mouser: 798-DM3AT-SF-PEJM5; Manufacturer: HiRose
footprint HIROSE_0_MFG
pins: 0 MNT, 1 DATA-2, 2 CD/DATA-3(CS), 3 CMD(DI), 4 VDD, 5 CLK(SCLK), 6 VSS, 7 DATA0(DO), 8 DATA1, 9, 10

## SGM803-SX3NL/TR
designator U?, comment Manufacturer Part Number: SGM803-SXN3L/TR  (hidden comment: Active Low SOT-23 Monitors & Reset Circuits ROHS)
Order Code: LCSC: C99577; LCSC Manufacturer Part Number: SGM803-SXN3L/TR; LCSC Part Number: C99577
footprint SGMICRO_SOT23
pins: 1 GND, 2 RESET-N, 3 VIN

## SGM803-SX3NL/TR_1
designator U?, comment Manufacturer Part Number: SGM803-SXN3L/TR  (hidden comment: Active Low SOT-23 Monitors & Reset Circuits ROHS)
Order Code: LCSC: C99577; LCSC Manufacturer Part Number: SGM803-SXN3L/TR; LCSC Part Number: C99577
footprint SGMICRO_SOT23
pins: 1 GND, 2 RESET-N, 3 VIN

## SHUNT
designator SHUNT?  (value not drawn)  (mechanical)
SHUNT JUMPER; Manufacturer: Samtec Inc.; Manufacturer Part Number: 2SN-BK-G; Value: SHUNT; DNP: DNP

## SHUNT_1
designator SHUNT?, comment SHUNT  (value not drawn)  (mechanical)
SHUNT JUMPER; Manufacturer: Samtec Inc.; Manufacturer Part Number: 2SN-BK-G; DNP: DNP; Value: SHUNT

## SI7942DP-T1-E3
designator Q?, comment Manufacturer Part Number: SI7942DP-T1-E3  (hidden comment: MOSFET 2N-CH 100V 3.8A PPAK SO8)
Mosfet Array 100V 3.8A 1.4W Surface Mount PowerPAK® SO-8 Dual; Order Code: Mouser: SI7942DP-T1-E3
footprint Vishay_S17-0173-DUAL_MFG
part A pins: 1 S1, 2 G1, 7-8 D1
part B pins: 3 S2, 4 G2, 5-6 D2

## SIM-SI62C
designator J?, comment SI62C-01200
Connector,SIM Card,6PIN With  post 1.27mm,H1.35mm,SMD; Manufacturer: Atom; Myir P/N: 21112.80001; PCB Footprint: SIM-SI62c-01200; Datasheet: SI62C-01200.pdf; Reserve Value: SI62C-01200; Manufacturer P/N: SI62C-01200; Part Type: Card Connector
footprint SIM-SI62c-01200
pins: 1 VCC, 2 RST, 3 CLK, 4 CD, 5 GND (power), 6 VPP, 7 I/O, 8 GND (power), 9 GND (power), 10 GND (power), 11 GND (power)
1 alternate drawing of the same symbol

## SKRAAME010
designator S?
Key,6.2mm Square with Middle-travel,0.5mm,50mA,12V DC,¨C40~£«90¡æ,1.96N,SMT,ALPS; Myir P/N: 21201.00008; PCB Footprint: SKRAAME010; Part Type: Key; Manufacturer: ALPS; Manufacturer P/N: SKRAAME010; Reserve Value: SKRAAME010; Datasheet: Connector\Key_ALPS_skra.pdf
footprint SKRAAME010 - duplicate
pins: 1, 2, 3, 4

## SKRPABE010
designator SW?
Tactile Switch SPST-NO Top Actuated Surface Mount; MPN: SKRPABE010; Supplier: Digi; 4809-SKRPABE010DKR-ND
footprint SW_SKRPABE010
pins: 1, 2 1, 3 2, 4 2

## SM6S30A
designator D?
48.4V Clamp 95A Ipp Tvs Diode Surface Mount DO-218AB; MPN: SM6S30A; Manufacturer: SMC Diode Solutions
footprint SM6S30A
pins: 1 A, 2 K

## SM24CANB-02HTG
designator D?
TVS Diode (Bi-directional); Manufacturer_Name: LITTELFUSE; Datasheet Link: https://www.littelfuse.com/media?resourcetype=datasheets&itemid=09dc84a6-1ff8-409f-a80f-5e92aedec8fe&filename=littelfuse-tvs-diode-array-sm24canb-datasheet; Height: 1.12mm; Manufacturer_Part_Number: SM24CANB-02HTG; Mouser Part Number: 576-SM24CANB-02HTG; Mouser Price/Stock: https://www.mouser.co.uk/ProductDetail/Littelfuse/SM24CANB-02HTG?qs=bWsWnctWn1wbKmCYlcUmHw%3D%3D; Arrow Part Number: SM24CANB-02HTG; Arrow Price/Stock: https://www.arrow.com/en/products/sm24canb-02htg/littelfuse?region=nac
footprint SOT95P230X117-3N
pins: 1, 2, 3

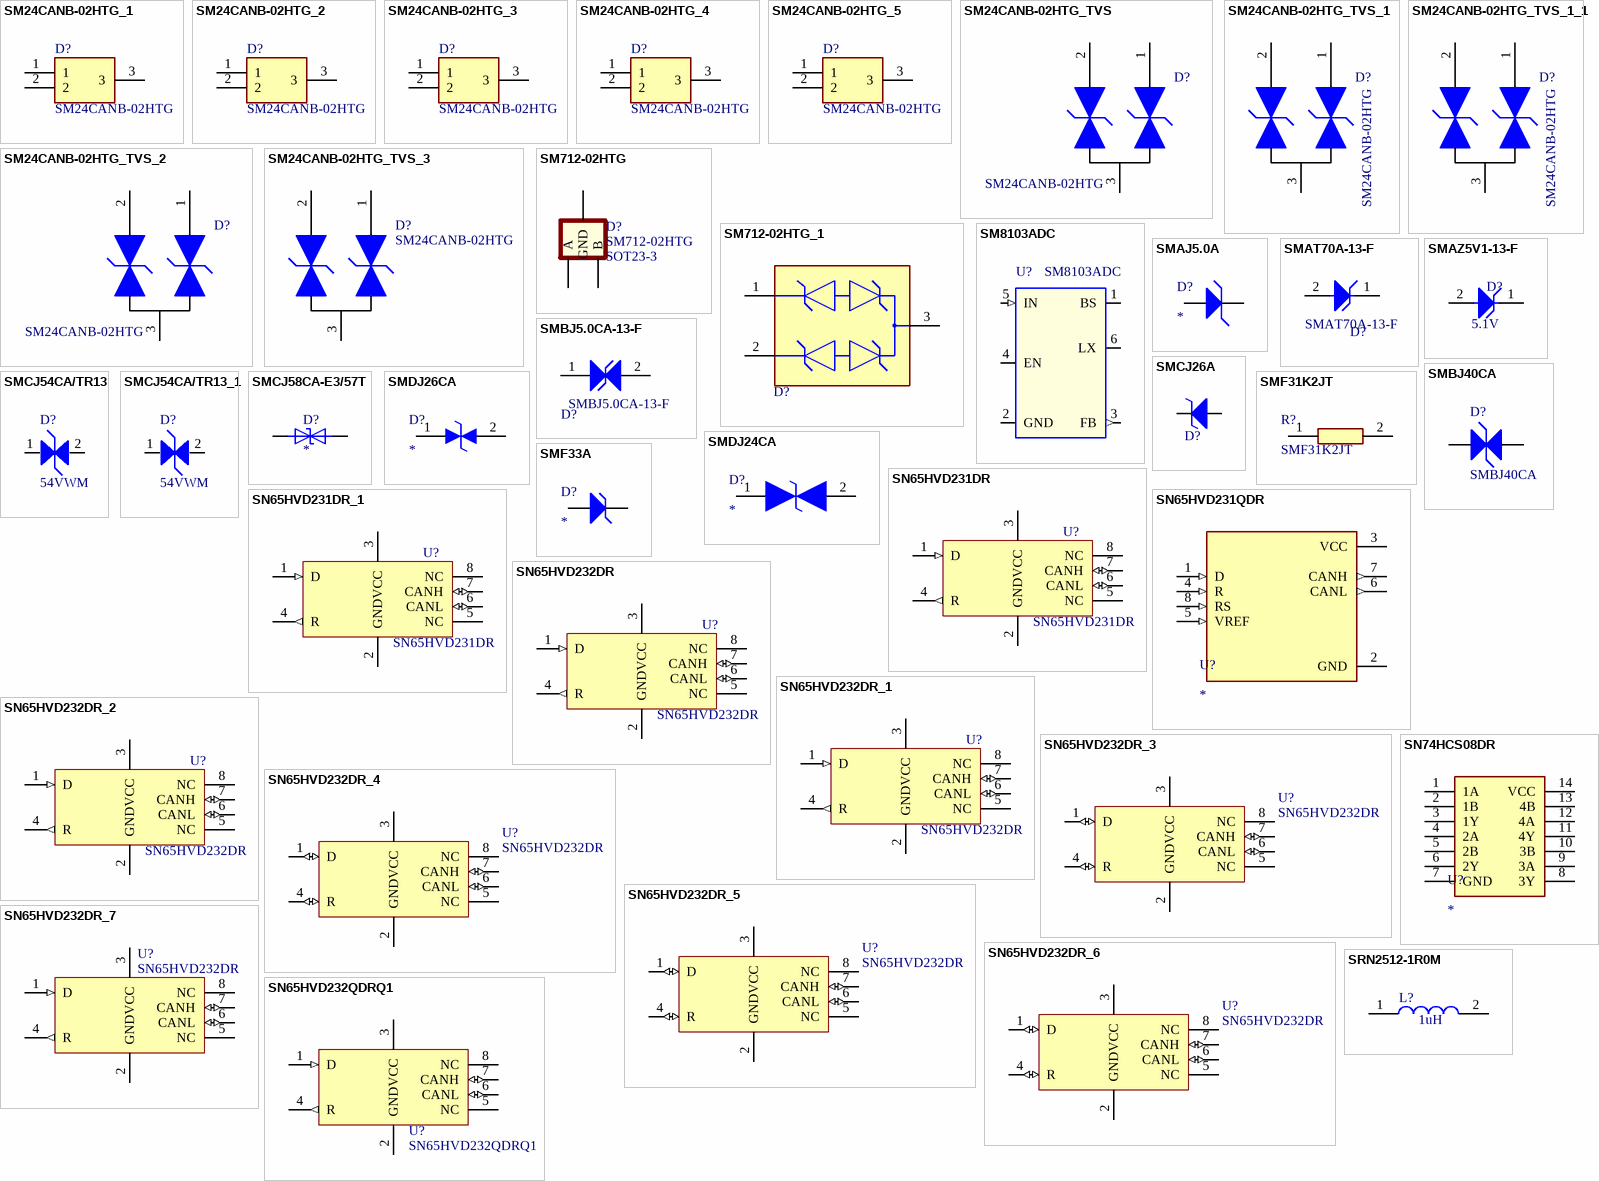
[diagram p42: symbols SM24CANB-02HTG_1 to SRN2512-1R0M]

## SM24CANB-02HTG_1
designator D?, comment SM24CANB-02HTG
TVS Diode (Bi-directional); Manufacturer_Name: LITTELFUSE; Datasheet Link: https://www.littelfuse.com/media?resourcetype=datasheets&itemid=09dc84a6-1ff8-409f-a80f-5e92aedec8fe&filename=littelfuse-tvs-diode-array-sm24canb-datasheet; Height: 1.12mm; Manufacturer_Part_Number: SM24CANB-02HTG; Mouser Part Number: 576-SM24CANB-02HTG; Mouser Price/Stock: https://www.mouser.co.uk/ProductDetail/Littelfuse/SM24CANB-02HTG?qs=bWsWnctWn1wbKmCYlcUmHw%3D%3D; Arrow Part Number: SM24CANB-02HTG; Arrow Price/Stock: https://www.arrow.com/en/products/sm24canb-02htg/littelfuse?region=nac
footprint SOT95P230X117-3N
pins: 1, 2, 3

## SM24CANB-02HTG_2
designator D?, comment SM24CANB-02HTG
TVS Diode (Bi-directional); Manufacturer_Name: LITTELFUSE; Datasheet Link: https://www.littelfuse.com/media?resourcetype=datasheets&itemid=09dc84a6-1ff8-409f-a80f-5e92aedec8fe&filename=littelfuse-tvs-diode-array-sm24canb-datasheet; Height: 1.12mm; Manufacturer_Part_Number: SM24CANB-02HTG; Mouser Part Number: 576-SM24CANB-02HTG; Mouser Price/Stock: https://www.mouser.co.uk/ProductDetail/Littelfuse/SM24CANB-02HTG?qs=bWsWnctWn1wbKmCYlcUmHw%3D%3D; Arrow Part Number: SM24CANB-02HTG; Arrow Price/Stock: https://www.arrow.com/en/products/sm24canb-02htg/littelfuse?region=nac
footprint SOT95P230X117-3N
pins: 1, 2, 3

## SM24CANB-02HTG_3
designator D?, comment SM24CANB-02HTG
TVS Diode (Bi-directional); Manufacturer_Name: LITTELFUSE; Datasheet Link: https://www.littelfuse.com/media?resourcetype=datasheets&itemid=09dc84a6-1ff8-409f-a80f-5e92aedec8fe&filename=littelfuse-tvs-diode-array-sm24canb-datasheet; Height: 1.12mm; Manufacturer_Part_Number: SM24CANB-02HTG; Mouser Part Number: 576-SM24CANB-02HTG; Mouser Price/Stock: https://www.mouser.co.uk/ProductDetail/Littelfuse/SM24CANB-02HTG?qs=bWsWnctWn1wbKmCYlcUmHw%3D%3D; Arrow Part Number: SM24CANB-02HTG; Arrow Price/Stock: https://www.arrow.com/en/products/sm24canb-02htg/littelfuse?region=nac
footprint SOT95P230X117-3N
pins: 1, 2, 3

## SM24CANB-02HTG_4
designator D?, comment SM24CANB-02HTG
TVS Diode (Bi-directional); Manufacturer_Name: LITTELFUSE; Datasheet Link: https://www.littelfuse.com/media?resourcetype=datasheets&itemid=09dc84a6-1ff8-409f-a80f-5e92aedec8fe&filename=littelfuse-tvs-diode-array-sm24canb-datasheet; Height: 1.12mm; Manufacturer_Part_Number: SM24CANB-02HTG; Mouser Part Number: 576-SM24CANB-02HTG; Mouser Price/Stock: https://www.mouser.co.uk/ProductDetail/Littelfuse/SM24CANB-02HTG?qs=bWsWnctWn1wbKmCYlcUmHw%3D%3D; Arrow Part Number: SM24CANB-02HTG; Arrow Price/Stock: https://www.arrow.com/en/products/sm24canb-02htg/littelfuse?region=nac
footprint SOT95P230X117-3N
pins: 1, 2, 3

## SM24CANB-02HTG_5
designator D?, comment SM24CANB-02HTG
TVS Diode (Bi-directional); Manufacturer_Name: LITTELFUSE; Datasheet Link: https://www.littelfuse.com/media?resourcetype=datasheets&itemid=09dc84a6-1ff8-409f-a80f-5e92aedec8fe&filename=littelfuse-tvs-diode-array-sm24canb-datasheet; Height: 1.12mm; Manufacturer_Part_Number: SM24CANB-02HTG; Mouser Part Number: 576-SM24CANB-02HTG; Mouser Price/Stock: https://www.mouser.co.uk/ProductDetail/Littelfuse/SM24CANB-02HTG?qs=bWsWnctWn1wbKmCYlcUmHw%3D%3D; Arrow Part Number: SM24CANB-02HTG; Arrow Price/Stock: https://www.arrow.com/en/products/sm24canb-02htg/littelfuse?region=nac
footprint SOT95P230X117-3N
pins: 1, 2, 3

## SM24CANB-02HTG_TVS
designator D?, comment Manufacturer Part Number: SM24CANB-02HTG  (hidden comment: CAN)
TVS DIODE 24VWM 50VC SOT23-3; Order Code: DIGI : F6707CT-ND; Value: 2Ch; LCSC Manufacturer Part Number: SM24CANB-02HTG; LCSC Part Number: C151237
footprint SOT23_3-DIODE (TO-236-3, SC-59, SOT-23-3)
pins: 1, 2, 3

## SM24CANB-02HTG_TVS_1
designator D?, comment P/N: SM24CANB-02HTG  (hidden comment: CAN)
TVS DIODE 24VWM 50VC SOT23-3; Order Code: DIGI : F6707CT-ND; Value: 2Ch; LCSC Part Number: C151237
footprint SOT23_3-DIODE (TO-236-3, SC-59, SOT-23-3)
pins: 1, 2, 3

## SM24CANB-02HTG_TVS_1_1
designator D?, comment P/N: SM24CANB-02HTG  (hidden comment: CAN)
TVS DIODE 24VWM 50VC SOT23-3; Order Code: DIGI : F6707CT-ND; Value: 2Ch; LCSC Part Number: C151237
footprint SOT23_3-DIODE (TO-236-3, SC-59, SOT-23-3)
pins: 1, 2, 3

## SM24CANB-02HTG_TVS_2
designator D?, comment Manufacturer Part Number: SM24CANB-02HTG  (hidden comment: CAN)
TVS DIODE 24VWM 50VC SOT23-3; Order Code: DIGI : F6707CT-ND; Value: 2Ch; LCSC Manufacturer Part Number: SM24CANB-02HTG; LCSC Part Number: C151237
footprint SOT23_3-DIODE (TO-236-3, SC-59, SOT-23-3)
pins: 1, 2, 3

## SM24CANB-02HTG_TVS_3
designator D?, comment Manufacturer Part Number: SM24CANB-02HTG  (hidden comment: TVS DIODE 24VWM 50VC SOT23-3)
50V Clamp 10A (8/20µs) Ipp Tvs Diode Surface Mount SOT-23-3; Order Code: DIGI : F6707CT-ND; Value: 2Ch; LCSC Manufacturer Part Number: SM24CANB-02HTG; LCSC Part Number: C151237
footprint SOT23_3-DIODE (TO-236-3, SC-59, SOT-23-3)
pins: 1, 2, 3

## SM712-02HTG
designator D?  Package Reference: SOT23-3
TVS DIODE 12VWM 31VC SOT23; Manufacturer: BOURNS; Manufacturer Part Name: CDSOT23-SM712; Family: DIODE; Supplier: OZDISAN; Supplier No: CDSOT23-SM712; Value: SM712-02HTG
footprint SOT23-3 (SOT23, 3-Leads, Body 2.9x1.3mm, Pitch 0.95mm, Lead Span 2.5mm, IPC Medium Density)
pins: 1 A, 2 B, 3 GND

## SM712-02HTG_1
designator D?, comment SM712-02HTG  (value not drawn)
footprint Littelfuse_SM712_MFG
pins: 1, 2, 3

## SM8103ADC
designator U?
IC,High Efficiency,3.0A,18V Input Synchronous Step Down Regulator,SM8103ADC,SMD,TSOT23-6, Silergy; Myir P/N: 20103.00083; Part Type: Power Management; Manufacturer: Silergy; Manufacturer P/N: SM8103ADC; Reserve Value: SM8103ADC; Datasheet: SM8103ADC.pdf; PCB Footprint: SOT23-6
footprint SOT23-6
pins: 1 BS, 2 GND (power), 3 FB (out), 4 EN, 5 IN (in), 6 LX

## SMAJ5.0A
designator D?
9.2V Clamp 43.5A Ipp Tvs Diode Surface Mount DO-214AC (SMA); MPN: SMAJ5.0A; Manufacturer: Littelfuse Inc.
footprint SMAJ5.0A
pins: 1 A, 2 K

## SMAT70A-13-F
designator D?, comment Manufacturer Part Number: SMAT70A-13-F  (hidden comment: TVS DIODE 70VWM 100VC SMA)
100V Clamp 3.5A Ipp Tvs Diode Surface Mount SMA; Order Code: DIGI: SMAT70A-FDITR-ND
footprint Diodes_SMA_0
pins: 1 C, 2 A

## SMAZ5V1-13-F
designator D?, comment Zener Voltage: 5.1V  (hidden comment: DIODE ZENER 5.1V 1W SMA)
Zener Diode 5.1 V 1 W ±5% Surface Mount SMA; Manufacturer Part Number: SMAZ5V1-13-F; Order Code: DIGI: SMAZ5V1-FDITR-ND
footprint Diodes_SMA_0
pins: 1 C, 2 A

## SMBJ5.0CA-13-F
designator D?, comment Manufacturer Part Number: SMBJ5.0CA-13-F  (hidden comment: TVS DIODE 5VWM 9.2VC SMB)
9.2V Clamp 65.2A Ipp Tvs Diode Surface Mount SMB; Order Code: DIGI: SMBJ5.0CA-FDITR-ND
footprint Diodes_Inc_SMB-CA_MFG
pins: 1, 2

## SMBJ40CA
designator D?
64.5V Clamp 9.3A Ipp Tvs Diode Surface Mount DO-214AA (SMBJ); Manufacturer: Littelfuse Inc.; Voltage - Breakdown (Min): 44.4V; Manufacturer Part Number: SMBJ40CA; Voltage - Clamping (Max) @ Ipp: 64.5V; Current - Peak Pulse (10/1000µs): 9.3A
footprint Littelfuse_Inc_SMBJ_MFG
pins: 1, 2

## SMCJ26A
designator D?  (value not drawn)
TVS Diode (Uni-directional); Manufacturer_Name: LITTELFUSE; Datasheet Link: http://www.littelfuse.com/products/tvs-diodes/surface-mount/~/media/electronics/datasheets/tvs_diodes/littelfuse_tvs_diode_smcj_datasheet.pdf.pdf; Height: 2.62mm; Manufacturer_Part_Number: SMCJ26A; Mouser Part Number: 576-SMCJ26A; Mouser Price/Stock: https://www.mouser.co.uk/ProductDetail/Littelfuse/SMCJ26A?qs=HR2RnyOI4E6Di4gw2MItQQ%3D%3D; Arrow Part Number: SMCJ26A; Arrow Price/Stock: https://www.arrow.com/en/products/smcj26a/littelfuse
footprint DIOM7959X262N
pins: 1 K, 2 A

## SMCJ54CA/TR13
designator D?  value 54VWM  (hidden comment: SMCJ54CA/TR13)
87.1V 60V 54V Bi-Directional SMC(DO-214AB) TVS ROHS; LCSC Manufacturer Part Number: SMCJ54CA/TR13; LCSC Part Number: C310062
footprint DO214AB (DIODE DO214AB)
pins: 1, 2

## SMCJ54CA/TR13_1
designator D?, comment value 54VWM  (hidden comment: SMCJ54CA/TR13)
87.1V 60V 54V Bi-Directional SMC(DO-214AB) TVS ROHS; LCSC Manufacturer Part Number: SMCJ54CA/TR13; LCSC Part Number: C310062
footprint DO214AB (DIODE DO214AB)
pins: 1, 2

## SMCJ58CA-E3/57T
designator D?
TransZorb 1500 W 58 V 93.6 Vcl Bi-Directional SMT TVS Diode - DO-214AB; Manufacturer: Vishay Semiconductors; Manufacturer Part Number: SMCJ58CA-E3/57T; Supplier 1: Digikey; RoHS: Yes; Category: TVS Diodes; Stock 1: 1611; Pricing 1: 1=0.64, 10=0.545, 100=0.3792 (USD); ComponentLink1URL: https://datasheet.ciiva.com/4247/smcj50a-4247736.pdf?src-supplier=Arrow+Electronics; ComponentLink1Description: https://datasheet.ciiva.com/4247/smcj50a-4247736.pdf?src-supplier=Arrow+Electronics; ComponentLink2URL: https://datasheet.ciiva.com/340/smcj50a-340997.pdf?src-supplier=Digikey; ComponentLink2Description: https://datasheet.ciiva.com/340/smcj50a-340997.pdf?src-supplier=Digikey; ComponentLink3URL: https://datasheet.ciiva.com/340/smcj50a-340998.pdf?src-supplier=Digikey; ComponentLink3Description: https://datasheet.ciiva.com/340/smcj50a-340998.pdf?src-supplier=Digikey; ComponentLink4URL: https://datasheet.ciiva.com/340/smcj50a-340999.pdf?src-supplier=Digikey; ComponentLink4Description: https://datasheet.ciiva.com/340/smcj50a-340999.pdf?src-supplier=Digikey; ComponentLink5URL: https://datasheet.ciiva.com/4508/smcj50a-241829-4508847.pdf?src-supplier=Mouser; ComponentLink5Description: https://datasheet.ciiva.com/4508/smcj50a-241829-4508847.pdf?src-supplier=Mouser; Supplier Part Number 1: SMCJ58CA-E3/57TGICT-ND
footprint DIOM7959X262N
pins: 1, 2

## SMDJ24CA
designator D?
38.9V Clamp 77.1A Ipp Tvs Diode Surface Mount DO-214AB (SMCJ); MPN: SMDJ24CA; Manufacturer: Littelfuse Inc.
footprint DIONM9059X262N
pins: 1, 2

## SMDJ26CA
designator D?
42.1V Clamp 71.3A Ipp Tvs Diode Surface Mount DO-214AB (SMCJ); Supplier: Digi; SMDJ26CADKR-ND
footprint DIONM7959X262N
pins: 1, 2

## SMF31K2JT
designator R?
Manufacturer_Name: TE Connectivity; Datasheet Link: https://datasheet.datasheetarchive.com/originals/dk/DKDS42/DSANUWW0051571.pdf; Height: 5.3mm; Manufacturer_Part_Number: SMF31K2JT
footprint RESM12055X530N
pins: 1, 2

## SMF33A
designator D?
53.3V Clamp 3.8A Ipp Tvs Diode Surface Mount SOD-123F; Manufacturer: Littelfuse Inc.; MPN: SMF33A
footprint SOD-123F - duplicate (SMF3.3)
pins: 1 K, 2 A

## SN65HVD231DR
designator U?, comment P/N: SN65HVD231DR  (hidden comment: IC TRANSCEIVER HALF 1/1 8SOIC)
1/1 Transceiver Half CANbus 8-SOIC; Order Code: DIGI : 296-26343-2-ND; Value: CAN; LCSC Manufacturer Part Number: SN65HVD231DR; LCSC Part Number: C129257
footprint SOIC8 (8-SOIC (0.154", 3.90mm Width))
pins: 1 D (in), 2 GND, 3 VCC, 4 R (out), 5 NC, 6 CANL (io), 7 CANH (io), 8 NC

## SN65HVD231DR_1
designator U?, comment P/N: SN65HVD231DR  (hidden comment: IC TRANSCEIVER HALF 1/1 8SOIC)
1/1 Transceiver Half CANbus 8-SOIC; Order Code: DIGI : 296-26343-2-ND; Value: CAN; LCSC Manufacturer Part Number: SN65HVD231DR; LCSC Part Number: C129257
footprint SOIC8 (8-SOIC (0.154", 3.90mm Width))
pins: 1 D (in), 2 GND, 3 VCC, 4 R (out), 5 NC, 6 CANL (io), 7 CANH (io), 8 NC

## SN65HVD231QDR
designator U?
3.3-V CAN Transceiver with Sleep Mode; MPN: SN65HVD231QDR; Supplier: Digi; 296-48950-6-ND
footprint SOIC127P599X175-8N/
pins: 1 D (in), 2 GND (power), 3 VCC (power), 4 R (in), 5 VREF (in), 6 CANL (out), 7 CANH (out), 8 RS (in)

## SN65HVD232DR
designator U?
1Mbps Transceiver 3V~3.6V SOIC-8 CAN ICs ROHS; Manufacturer Part Number: SN65HVD232DR; LCSC Part Number: C30530
footprint SOIC8 (8-SOIC (0.154", 3.90mm Width))
pins: 1 D (in), 2 GND (power), 3 VCC (power), 4 R (out), 5 NC, 6 CANL (io), 7 CANH (io), 8 NC

## SN65HVD232DR_1
designator U?, comment SN65HVD232DR
1Mbps Transceiver 3V~3.6V SOIC-8 CAN ICs ROHS; Manufacturer Part Number: SN65HVD232DR; LCSC Part Number: C30530
footprint SOIC8 (8-SOIC (0.154", 3.90mm Width))
pins: 1 D (in), 2 GND (power), 3 VCC (power), 4 R (out), 5 NC, 6 CANL (io), 7 CANH (io), 8 NC

## SN65HVD232DR_2
designator U?, comment SN65HVD232DR
1Mbps Transceiver 3V~3.6V SOIC-8 CAN ICs ROHS; Manufacturer Part Number: SN65HVD232DR; LCSC Part Number: C30530
footprint SOIC8 (8-SOIC (0.154", 3.90mm Width))
pins: 1 D (in), 2 GND (power), 3 VCC (power), 4 R (out), 5 NC, 6 CANL (io), 7 CANH (io), 8 NC

## SN65HVD232DR_3
designator U?, comment SN65HVD232DR
1Mbps Transceiver 3V~3.6V SOIC-8 CAN ICs ROHS; Manufacturer Part Number: SN65HVD232DR; LCSC Part Number: C30530
footprint SOIC8 (8-SOIC (0.154", 3.90mm Width))
pins: 1 D (io), 2 GND (power), 3 VCC (power), 4 R (io), 5 NC, 6 CANL (io), 7 CANH (io), 8 NC

## SN65HVD232DR_4
designator U?, comment SN65HVD232DR
1Mbps Transceiver 3V~3.6V SOIC-8 CAN ICs ROHS; Manufacturer Part Number: SN65HVD232DR; LCSC Part Number: C30530
footprint SOIC8 (8-SOIC (0.154", 3.90mm Width))
pins: 1 D (io), 2 GND (power), 3 VCC (power), 4 R (io), 5 NC, 6 CANL (io), 7 CANH (io), 8 NC

## SN65HVD232DR_5
designator U?, comment SN65HVD232DR
1Mbps Transceiver 3V~3.6V SOIC-8 CAN ICs ROHS; Manufacturer Part Number: SN65HVD232DR; LCSC Part Number: C30530
footprint SOIC8 (8-SOIC (0.154", 3.90mm Width))
pins: 1 D (io), 2 GND (power), 3 VCC (power), 4 R (io), 5 NC, 6 CANL (io), 7 CANH (io), 8 NC

## SN65HVD232DR_6
designator U?, comment SN65HVD232DR
1Mbps Transceiver 3V~3.6V SOIC-8 CAN ICs ROHS; Manufacturer Part Number: SN65HVD232DR; LCSC Part Number: C30530
footprint SOIC8 (8-SOIC (0.154", 3.90mm Width))
pins: 1 D (io), 2 GND (power), 3 VCC (power), 4 R (io), 5 NC, 6 CANL (io), 7 CANH (io), 8 NC

## SN65HVD232DR_7
designator U?, comment SN65HVD232DR
1Mbps Transceiver 3V~3.6V SOIC-8 CAN ICs ROHS; Manufacturer Part Number: SN65HVD232DR; LCSC Part Number: C30530
footprint SOIC8 (8-SOIC (0.154", 3.90mm Width))
pins: 1 D (in), 2 GND (power), 3 VCC (power), 4 R (out), 5 NC, 6 CANL (io), 7 CANH (io), 8 NC

## SN65HVD232QDRQ1
designator U?, comment Manufacturer Part Number: SN65HVD232QDRQ1  (hidden comment: IC TRANSCEIVER HALF 1/1 8SOIC)
1/1 Transceiver Half CANbus 8-SOIC; Order Code: DIGI : 296-15381-2-ND; Value: CAN
footprint SOIC8 (8-SOIC (0.154", 3.90mm Width))
pins: 1 D (in), 2 GND, 3 VCC, 4 R (out), 5 NC, 6 CANL (io), 7 CANH (io), 8 NC

## SN74HCS08DR
designator U?
AND Gate IC 4 Channel Schmitt Trigger Input 14-SOIC; MPN: SN74HCS08DR
footprint SOIC127P600X175-14N
pins: 1 1A, 2 1B, 3 1Y, 4 2A, 5 2B, 6 2Y, 7 GND, 8 3Y, 9 3A, 10 3B, 11 4Y, 12 4A, 13 4B, 14 VCC